# Altium integrated library ECS-100-18-5PX-TR.IntLib: 1 symbol
Pins are listed as number, name and electrical type; pins without a type are passive.

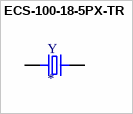
[diagram p0: symbol ECS-100-18-5PX-TR]

## ECS-100-18-5PX-TR
designator Y
10MHz Â±30ppm Crystal 18pF 50 Ohms HC-49/US; MF: ECS Inc.; MP: ECS-100-18-5PX-TR; Digi-Key_Part_Number: XC1288CT-ND; SnapEDA_Link: https://www.snapeda.com/parts/ECS-100-18-5PX-TR/ECS%20Inc./view-part/2455545/?ref=snap; Package: HC49/US ECS International; Digi-Key_Purchase_URL: https://www.digikey.com/product-detail/en/ecs-inc/ECS-100-18-5PX-TR/XC1288CT-ND/827752?utm_source=snapeda&utm_medium=aggregator&utm_campaign=symbol; Value: *
footprint XTAL_ECS-100-18-5PX-TR
pins: 1, 2